# Altium schematic symbol library Omnivision.SchLib: 2 symbols
Pins are listed as number, name and electrical type; pins without a type are passive.

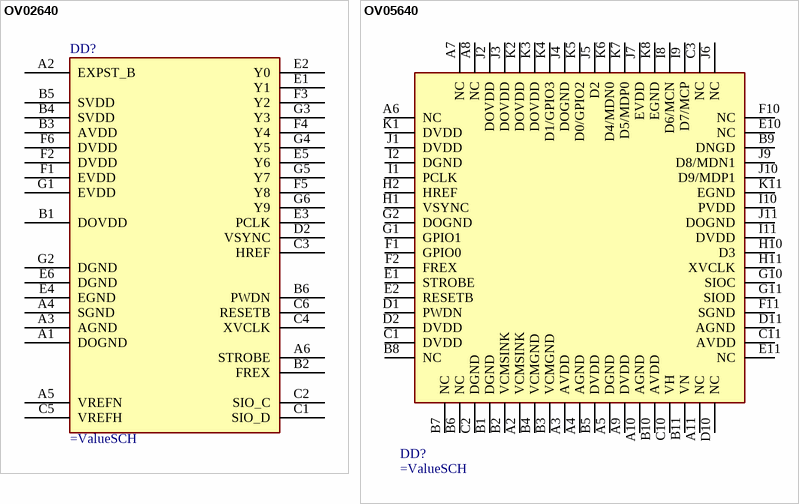
[diagram p0: symbols OV02640 to OV05640]

## OV02640
designator DD?
pins: A1 DOGND, A2 EXPST_B, A3 AGND, A4 SGND, A5 VREFN, A6 STROBE, B1 DOVDD, B2 FREX, B3 AVDD, B4 SVDD, B5 SVDD, B6 PWDN, C1 SIO_D, C2 SIO_C, C3 HREF, C4 XVCLK, C5 VREFH, C6 RESETB, D2 VSYNC, E1 Y1, E2 Y0, E3 PCLK, E4 EGND, E5 Y6, E6 DGND, F1 EVDD, F2 DVDD, F3 Y2, F4 Y4, F5 Y8, F6 DVDD, G1 EVDD, G2 DGND, G3 Y3, G4 Y5, G5 Y7, G6 Y9

## OV05640
designator DD?
pins: A2 VCMSINK, A3 AVDD, A4 AGND, A5 DGND, A6 NC, A7 NC, A8 NC, A9 DVDD, A10 AGND, A11 NC, B1 DGND, B2 VCMSINK, B3 VCMGND, B4 VCMGND, B5 DVDD, B6 NC, B7 NC, B8 NC, B9 DNGD, B10 AVDD, B11 VN, C1 DVDD, C2 DGND, C3 NC, C10 VH, C11 AVDD, D1 PWDN, D2 DVDD, D10 NC, D11 AGND, E1 STROBE, E2 RESETB, E10 NC, E11 NC, F1 GPIO0, F2 FREX, F10 NC, F11 SGND, G1 GPIO1, G2 DOGND, G10 SIOC, G11 SIOD, H1 VSYNC, H2 HREF, H10 D3, H11 XVCLK, I1 PCLK, I2 DGND, I8 D6/MCN, I9 D7/MCP, I10 PVDD, I11 DVDD, J1 DVDD, J2 DOVDD, J3 DOVDD, J4 DOGND, J5 D2, J6 NC, J7 EVDD, J9 D8/MDN1, J10 D9/MDP1, J11 DOGND, K1 DVDD, K2 DOVDD, K3 DOVDD, K4 D1/GPIO3, K5 D0/GPIO2, K6 D4/MDN0, K7 D5/MDP0, K8 EGND, K11 EGND